# EAGLE library part SN74CBTD3861DWR (library SN74CBTD3861DWR)
10-BIT FET BUS SWITCH WITH LEVEL SHIFTING
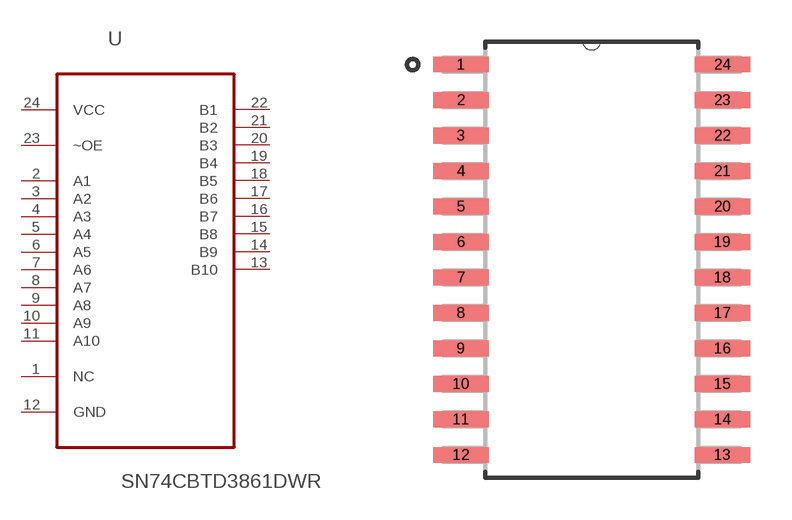
[diagram p0: symbol with the pads of SOIC127P1030X265-24N; footprint SOIC127P1030X265-24N]

Designator prefix U

## SN74CBTD3861DWR (Availability: Unavailable; Description: 10-Bit FET Bus Switch With Level Shifting 24-SOIC -40 to 85; MF: Texas Instruments; MP: SN74CBTD3861DWR; Package: SOIC-24 Texas Instruments; Price: None)  [SOIC127P1030X265-24N]
1  NC  in
2  A1
3  A2
4  A3
5  A4
6  A5
7  A6
8  A7
9  A8
10  A9
11  A10
12  GND  pas
13  B10
14  B9
15  B8
16  B7
17  B6
18  B5
19  B4
20  B3
21  B2
22  B1
23  ~OE  in
24  VCC  pwr

## Footprint SOIC127P1030X265-24N (pad centres in mm)
smd 1.981 x 0.559: 1 -4.674,6.985; 2 -4.674,5.715; 3 -4.674,4.445; 4 -4.674,3.175; 5 -4.674,1.905; 6 -4.674,0.635; 7 -4.674,-0.635; 8 -4.674,-1.905; 9 -4.674,-3.175; 10 -4.674,-4.445; 11 -4.674,-5.715; 12 -4.674,-6.985; 13 4.674,-6.985; 14 4.674,-5.715; 15 4.674,-4.445; 16 4.674,-3.175; 17 4.674,-1.905; 18 4.674,-0.635; 19 4.674,0.635; 20 4.674,1.905; 21 4.674,3.175; 22 4.674,4.445; 23 4.674,5.715; 24 4.674,6.985